# Altium footprint library Capacitor.PcbLib: 28 footprints (part 2 of 2)
Each footprint in its own frame and in the unit in brackets; x right, y up, seen from the top. Pads: shape width x height; smd on the part's side, far side on the other; paste and mask are expansions set on the pad; w line width, h text height; cw(c..) or ccw(c..) is an arc to the next point about the centre after c.
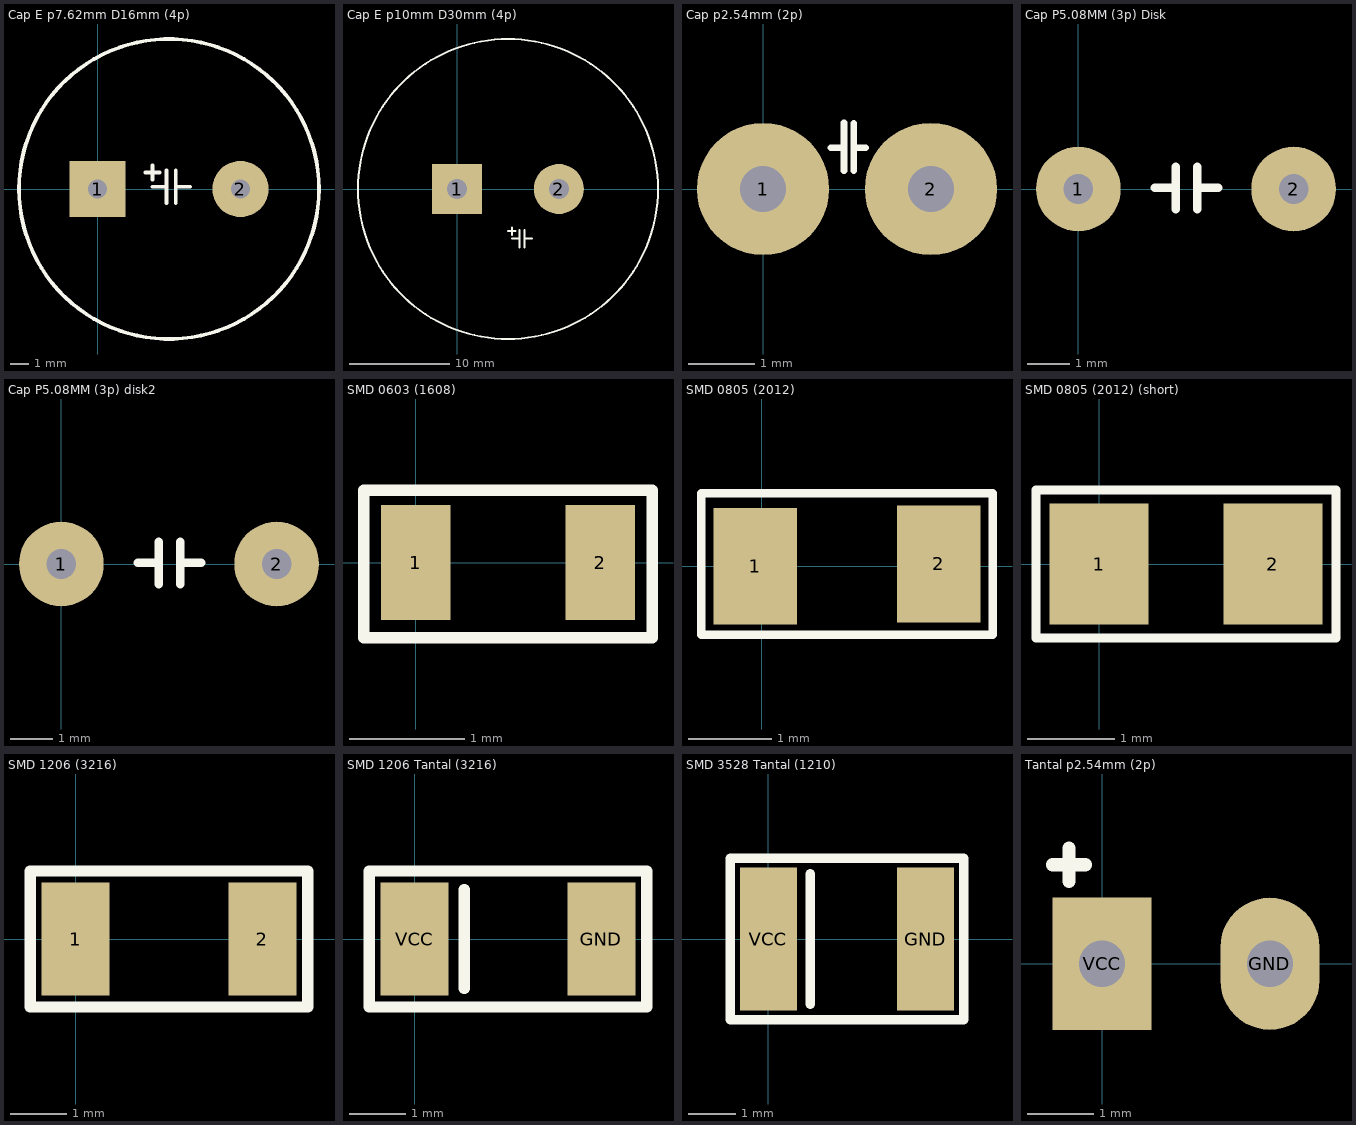
[diagram p1: the footprints below, top view; thin cyan lines are the x and y axes]

## Cap E p7.62mm D16mm (4p) [mm] "D 16mm; H 25mm"
height 25
pads (2):
  rect 3x3 hole 1: 1(0,0)
  round 3 hole 1: 2(7.62,0)
Top Overlay:
  circle w0.2: c3.81,0 r8
  lines w0.2: 2.55,0.875 3.3,0.875 ; 2.925,0.125 3.675,0.125 ; 2.925,0.5 2.925,1.25 ; 3.675,-0.75 3.675,1 ; 4.175,-0.75 4.175,1 ; 4.175,0.125 4.925,0.125
3D body "Capacitor Radial Electrolitic 1600x2500.step": height 25.21, standoff -2.5, extent -4.221,-8 11.721,8

## Cap E p10mm D30mm (4p) [mm] "D 30mm; H 47mm"
height 47
pads (2):
  rect 5x5 hole 2: 1(0,0)
  round 5 hole 2: 2(10.16,0)
Top Overlay:
  circle w0.2: c5.08,0 r15
  lines w0.2: 5.09,-4.205 5.84,-4.205 ; 5.465,-4.955 6.215,-4.955 ; 5.465,-4.58 5.465,-3.83 ; 6.215,-5.83 6.215,-4.08 ; 6.715,-5.83 6.715,-4.08 ; 6.715,-4.955 7.465,-4.955
3D body "E 30x50mm (4p).STEP": height 50.8, standoff -6.89, extent -10.16,-15.239 20.32,15.24

## Cap p2.54mm (2p) [mm] "Disk small"
height 5
pads (2):
  round 2 hole 0.7: 1(0,0) 2(2.54,0)
Top Overlay:
  lines w0.1: 1.025,0.625 1.2,0.625 ; 1.225,0.275 1.225,1 ; 1.375,0.275 1.375,0.991 ; 1.375,0.625 1.55,0.625
3D body "FK18X5R1E474K.step": height 5.5, standoff -3.33, extent -1.5,-1.225 4,1.275

## Cap P5.08MM (3p) Disk [mm]
height 5
pads (2):
  round 2 hole 0.7: 1(0,0) 2(5.08,0)
Top Overlay:
  lines w0.2: 1.8,0.025 2.3,0.025 ; 2.3,-0.475 2.3,0.525 ; 2.8,-0.475 2.8,0.525 ; 2.8,0.025 3.3,0.025
3D body "Ceramic Disc Capacitor 0_2in pitch.step": height 7.5, standoff -1, extent -0.945,-0.821 6.045,0.875

## Cap P5.08MM (3p) disk2 [mm]
height 5
pads (2):
  round 2 hole 0.7: 1(0,0) 2(5.08,0)
Top Overlay:
  lines w0.2: 1.8,0.025 2.3,0.025 ; 2.3,-0.475 2.3,0.525 ; 2.8,-0.475 2.8,0.525 ; 2.8,0.025 3.3,0.025
3D body "capacitor-radial.step": height 6.04, standoff -1.58, extent -0.294,-1.125 5.294,1.161

## SMD 0603 (1608) [mm]
height 0.55
pads (2):
  rect 0.6x1 smd: 1(0,0) 2(1.6,0)
Top Overlay:
  lines w0.1: -0.45,-0.65 -0.45,0.625 2.05,0.625 2.05,-0.65 -0.45,-0.65
3D body "0603 SMD Capacitor.STEP": height 0.3, standoff 0, extent 0,-0.375 1.6,0.425

## SMD 0805 (2012) [mm]
pads (2):
  rect 1x1.4 smd: 1(-0.075,0) 2(2.125,0.025)
Top Overlay:
  lines w0.1: -0.725,-0.825 -0.725,-0.063 -0.725,0.875 2.775,0.875 2.775,-0.825 -0.725,-0.825
3D body "0805 SMD Capacitor.step": height 0.78, standoff 0, extent 0,-0.625 2,0.625

## SMD 0805 (2012) (short) [mil]
pads (2):
  rect 45x55 smd: 1(0,0) 2(78.74,0)
Top Overlay:
  lines w3.94: -28.54,-33.46 107.28,-33.46 107.28,33.46 -28.54,33.46 -28.54,-2.48 -28.54,-33.46
3D body "0805 SMD Capacitor.step": height 30.79, standoff 0, extent 0.99,-24.6 79.73,24.61

## SMD 1206 (3216) [mm]
pads (2):
  rect 1.2x2 smd: 1(0,0) 2(3.3,0)
Top Overlay:
  lines w0.2: -0.8,-1.2 4.1,-1.2 4.1,1.2 -0.8,1.2 -0.8,-1.2
3D body "1206 SMD Capacitor.step": height 1, standoff 0, extent 0.05,-0.75 3.25,0.85

## SMD 1206 Tantal (3216) [mm]
pads (2):
  rect 1.2x2 smd: GND(3.3,0) VCC(0,0)
Top Overlay:
  lines w0.2: 0.875,-0.875 0.875,0.875 ; -0.8,-1.2 -0.8,1.2 4.1,1.2 4.1,-1.2 -0.8,-1.2
3D body "Tantal_3216-18_A_case_(1206).step": height 1.8, standoff 0, extent -0.05,-0.9 3.35,0.9

## SMD 3528 Tantal (1210) [mm]
pads (2):
  rect 1.2x3 smd: GND(3.3,0) VCC(0,0)
Top Overlay:
  lines w0.2: 0.875,-1.375 0.875,1.375 ; -0.8,-1.7 -0.8,1.7 4.1,1.7 4.1,-1.7 -0.8,-1.7
3D body "Tantal_3528-21_B_case_(1210).step": height 2.03, standoff 0, extent -0.2,-1.465 3.5,1.465

## Tantal p2.54mm (2p) [mm] "Disk small"
height 5
pads (2):
  oval 1.5x2 hole 0.7: GND(2.54,0)
  rect 1.5x2 hole 0.7: VCC(0,0)
Top Overlay:
  lines w0.2: -0.75,1.5 -0.25,1.5 ; -0.5,1.25 -0.5,1.75
3D body "Tantal_DIP (2.54).step": height 8.5, standoff -2.5, extent -0.9,-2.173 3.449,2.174